# Altium footprint library INDC3030X30L90L.PcbLib: 1 footprints
Each footprint in its own frame and in the unit in brackets; x right, y up, seen from the top. Pads: shape width x height; smd on the part's side, far side on the other; paste and mask are expansions set on the pad; w line width, h text height; cw(c..) or ccw(c..) is an arc to the next point about the centre after c.
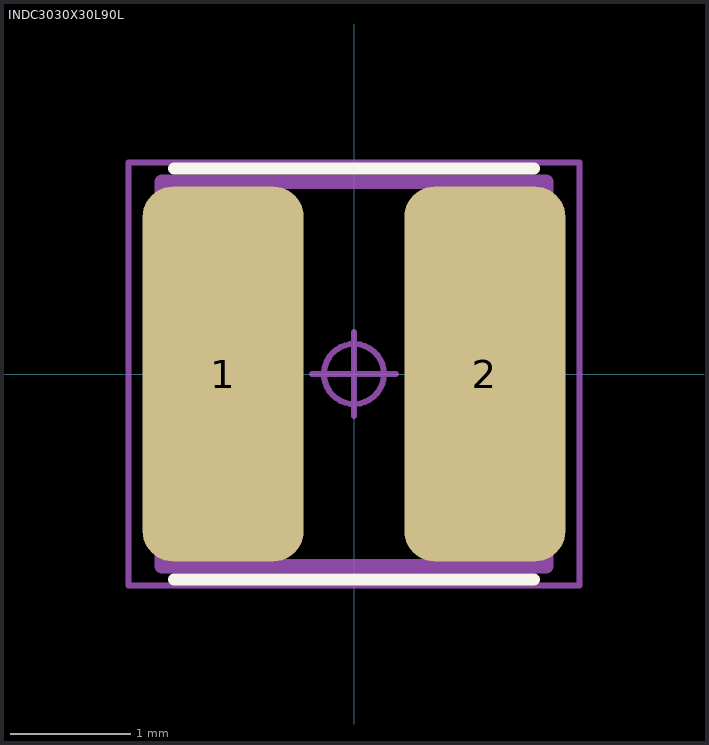
[diagram p0: the footprint, top view; thin cyan lines are the x and y axes]

## INDC3030X30L90L [mm] "Inductor, Chip; 3.00 mm L X 3.00 mm W X 0.30 mm H body"
height 0.3
pads (2):
  rrect37% 1.34x3.12 smd: 1(-1.09,0) 2(1.09,0)
Top Overlay:
  lines w0.1: -1.5,-1.71 1.5,-1.71 ; -1.5,1.71 1.5,1.71
Fab - Detail1, HDI1:
  lines w0.12: -1.6,-1.6 -1.6,1.6 1.6,1.6 1.6,-1.6 -1.6,-1.6
Courtyards/Models - Top:
  circle w0.05: c0,0 r0.25
  lines w0.05: -0.35,0 0.35,0 ; 0,-0.35 0,0.35 ; -1.88,-1.76 -1.88,1.76 1.88,1.76 1.88,-1.76 -1.88,-1.76
3D body: height 1.4, standoff 0, extent -1.5,-1.5 1.5,1.5